# Altium footprint library molex.PcbLib: 4 footprints
Each footprint in its own frame and in the unit in brackets; x right, y up, seen from the top. Pads: shape width x height; smd on the part's side, far side on the other; paste and mask are expansions set on the pad; w line width, h text height; cw(c..) or ccw(c..) is an arc to the next point about the centre after c.
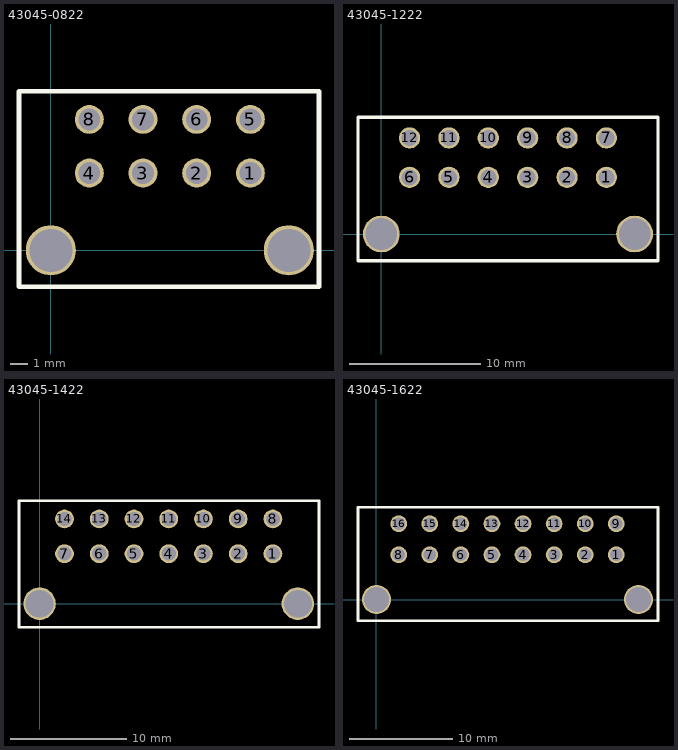
[diagram p0: the footprints below, top view; thin cyan lines are the x and y axes]

## 43045-0822 [mm] "8 pin molex female"
pads (10):
  round 1.62 hole 1.22: 1(11.15,4.32) 2(8.15,4.32) 3(5.15,4.32) 4(2.15,4.32) 5(11.15,7.32) 6(8.15,7.32) 7(5.15,7.32) 8(2.15,7.32)
  round 2.8 hole 2.41: ""(0,0) ""(13.3,0)
Top Overlay:
  lines w0.254: -1.778,-2.032 -1.778,8.89 14.986,8.89 14.986,-2.032 -1.778,-2.032
3D body "430450822.stp": height 8.83, standoff -3.12, extent -1.475,-4.6 14.725,7.64

## 43045-1222 [mm] "12 pin molex female"
pads (14):
  round 1.62 hole 1.22: 1(17.15,4.32) 2(14.15,4.32) 3(11.15,4.32) 4(8.15,4.32) 5(5.15,4.32) 6(2.15,4.32) 7(17.15,7.32) 8(14.15,7.32) 9(11.15,7.32) 10(8.15,7.32) 11(5.15,7.32) 12(2.15,7.32)
  round 2.8 hole 2.41: ""(0,0) ""(19.3,0)
Top Overlay:
  lines w0.254: -1.778,-2.032 21.082,-2.032 21.082,8.89 -1.778,8.89 -1.778,-2.032
3D body "430451222.stp": height 8.83, standoff -3.12, extent -1.475,-4.6 20.725,7.64

## 43045-1422 [mm] "14 pin molex female"
pads (16):
  round 1.62 hole 1.22: 1(20.15,4.32) 2(17.15,4.32) 3(14.15,4.32) 4(11.15,4.32) 5(8.15,4.32) 6(5.15,4.32) 7(2.15,4.32) 8(20.15,7.32) 9(17.15,7.32) 10(14.15,7.32) 11(11.15,7.32) 12(8.15,7.32) 13(5.15,7.32) 14(2.15,7.32)
  round 2.8 hole 2.41: ""(0,0) ""(22.3,0)
Top Overlay:
  lines w0.254: -1.778,-2.032 -1.778,8.89 24.13,8.89 24.13,-2.032 -1.778,-2.032
3D body "430451422.stp": height 8.83, standoff -3.12, extent -1.475,-4.6 23.725,7.64

## 43045-1622 [mm] "16 pin molex female"
pads (18):
  round 1.62 hole 1.22: 1(23.15,4.32) 2(20.15,4.32) 3(17.15,4.32) 4(14.15,4.32) 5(11.15,4.32) 6(8.15,4.32) 7(5.15,4.32) 8(2.15,4.32) 9(23.15,7.32) 10(20.15,7.32) 11(17.15,7.32) 12(14.15,7.32) 13(11.15,7.32) 14(8.15,7.32) 15(5.15,7.32) 16(2.15,7.32)
  round 2.8 hole 2.41: ""(0,0) ""(25.3,0)
Top Overlay:
  lines w0.254: -1.778,-2.032 -1.778,8.89 27.178,8.89 27.178,-2.032 -1.778,-2.032
3D body "430451622.stp": height 8.83, standoff -3.12, extent -1.475,-4.6 26.725,7.64